# Altium footprint library MOLEX-06_180.PcbLib: 1 footprints
Each footprint in its own frame and in the unit in brackets; x right, y up, seen from the top. Pads: shape width x height; smd on the part's side, far side on the other; paste and mask are expansions set on the pad; w line width, h text height; cw(c..) or ccw(c..) is an arc to the next point about the centre after c.
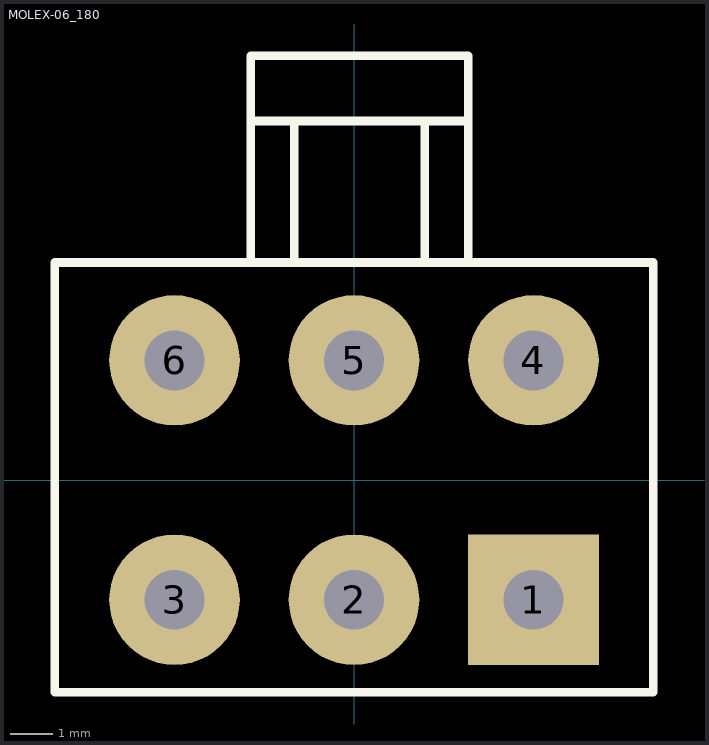
[diagram p0: the footprint, top view; thin cyan lines are the x and y axes]

## MOLEX-06_180 [mil]
pads (6):
  rect 120x120 hole 55: 1(165,-110)
  round 120 hole 55: 2(0,-110) 3(-165,-110) 4(165,110) 5(0,110) 6(-165,110)
TopOverlay:
  lines w8: -95,200 -95,390 105,390 105,200 ; -95,330 100,330 ; -55,200 -55,330 ; 65,200 65,330 ; -275,-195 -275,200 55,200 275,200 275,-195 -275,-195